# EAGLE library part SP3220ECA-L (library Exar_By_element14_Batch_1)
+3.0V to +5.5V RS-232 Driver/Receiver Pair
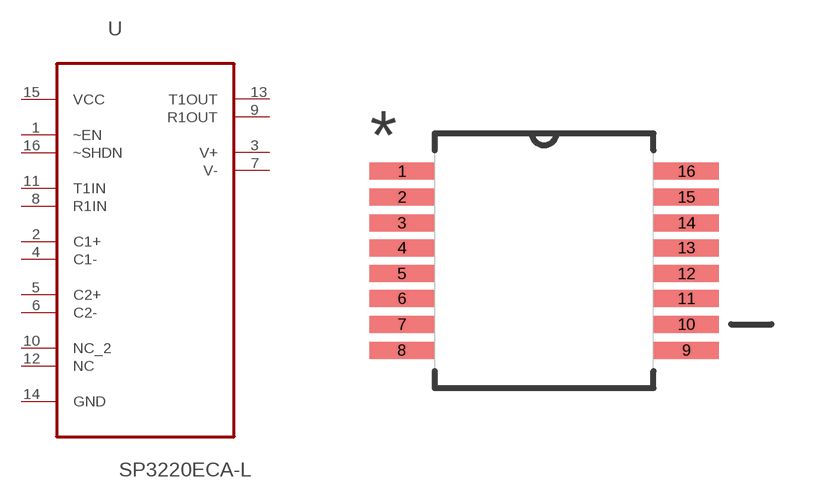
[diagram p16: symbol with the pads of SOP65P780X200-16N; footprint SOP65P780X200-16N]

Designator prefix U

## SP3220ECA-L (MPN: SP3220ECA-L; OC_FARNELL: 1296629; OC_NEWARK: 24R0242; PACKAGE: SSOP-16; SUPPLIER: EXAR)  [SOP65P780X200-16N]
1  ~EN  in
2  C1+  pas
3  V+  in
4  C1-  pas
5  C2+  pas
6  C2-  pas
7  V-  pwr
8  R1IN  in
9  R1OUT  out
10  NC_2  nc
11  T1IN  in
12  NC  nc
13  T1OUT  out
14  GND  pas
15  VCC  pwr
16  ~SHDN  in

## Footprint SOP65P780X200-16N (pad centres in mm)
smd 1.651 x 0.432: 1 -3.632,2.286; 2 -3.632,1.626; 3 -3.632,0.965; 4 -3.632,0.33; 5 -3.632,-0.33; 6 -3.632,-0.965; 7 -3.632,-1.626; 8 -3.632,-2.286; 9 3.632,-2.286; 10 3.632,-1.626; 11 3.632,-0.965; 12 3.632,-0.33; 13 3.632,0.33; 14 3.632,0.965; 15 3.632,1.626; 16 3.632,2.286